# Altium schematic symbol library WB-AV-4510-DAQ.SchLib: 5 symbols
Pins are listed as number, name and electrical type; pins without a type are passive.

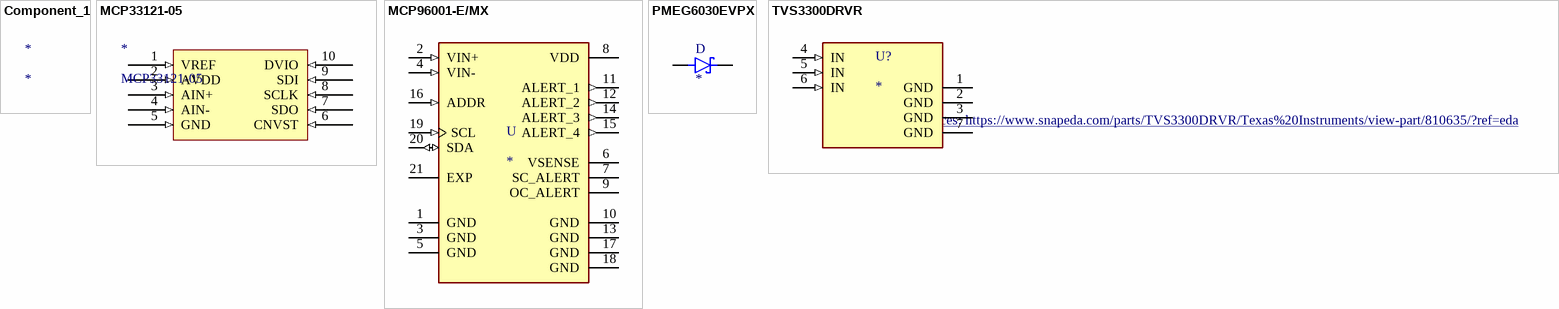
[diagram p0: symbols Component_1 to TVS3300DRVR]

## Component_1
designator *

## MCP33121-05
designator *
footprint MCP33121-05
pins: 1 VREF (in), 2 AVDD (in), 3 AIN+ (in), 4 AIN- (in), 5 GND (in), 6 CNVST (in), 7 SDO (in), 8 SCLK (in), 9 SDI (in), 10 DVIO (in)

## MCP96001-E/MX
designator U
IC THERMOCOUPLE TO I2C 20MQFN; MF: Microchip; MP: MCP9600-E/MX; Package: VQFN-20 Microchip; Value: *; Availability: Unavailable; SnapEDA_Link: https://www.snapeda.com/parts/MCP9600-E/MX/Microchip/view-part/553302/?ref=snap; Price: None
footprint QFN65P500X500X100-21N_MCP9600-E/MX
pins: 1 GND (power), 2 VIN+ (in), 3 GND (power), 4 VIN- (in), 5 GND (power), 6 VSENSE (power), 7 SC_ALERT (power), 8 VDD (power), 9 OC_ALERT (power), 10 GND (power), 11 ALERT_1 (out), 12 ALERT_2 (out), 13 GND (power), 14 ALERT_3 (out), 15 ALERT_4 (out), 16 ADDR (in), 17 GND (power), 18 GND (power), 19 SCL (in), 20 SDA (io), 21 EXP (power)

## PMEG6030EVPX
designator D
Diode Schottky 60V 3A Surface Mount SOD-128/CFP5; MF: Nexperia USA; MP: PMEG6030EVPX; Price: None; Value: *; Package: SOD-128 Nexperia; Availability: Unavailable; SnapEDA_Link: https://www.snapeda.com/parts/PMEG6030EVPX/Nexperia%20USA%20Inc./view-part/2755440/?ref=snap
footprint DIO_PMEG6030EVPX
pins: 1 K, 2 A

## TVS3300DRVR
designator U?
33-V flat-clamp surge protection device 6-WSON -40 to 125; MF: Texas Instruments; MP: TVS3300DRVR; Value: *; Price: None; Package: WSON-6 Texas Instruments; Availability: Good; SnapEDA_Link: https://www.snapeda.com/parts/TVS3300DRVR/Texas%20Instruments/view-part/810635/?ref=snap; Purchase-URL: https://pricing.snapeda.com/search/part/TVS3300DRVR/?ref=eda; Check_prices: https://www.snapeda.com/parts/TVS3300DRVR/Texas%20Instruments/view-part/810635/?ref=eda
footprint SON65P200X200X80-7N
pins: 1 GND (power), 2 GND (power), 3 GND (power), 4 IN (in), 5 IN (in), 6 IN (in), 7 GND (power)